# Altium schematic symbol library IB_floripasat2.SchLib: 29 symbols (part 2 of 2)
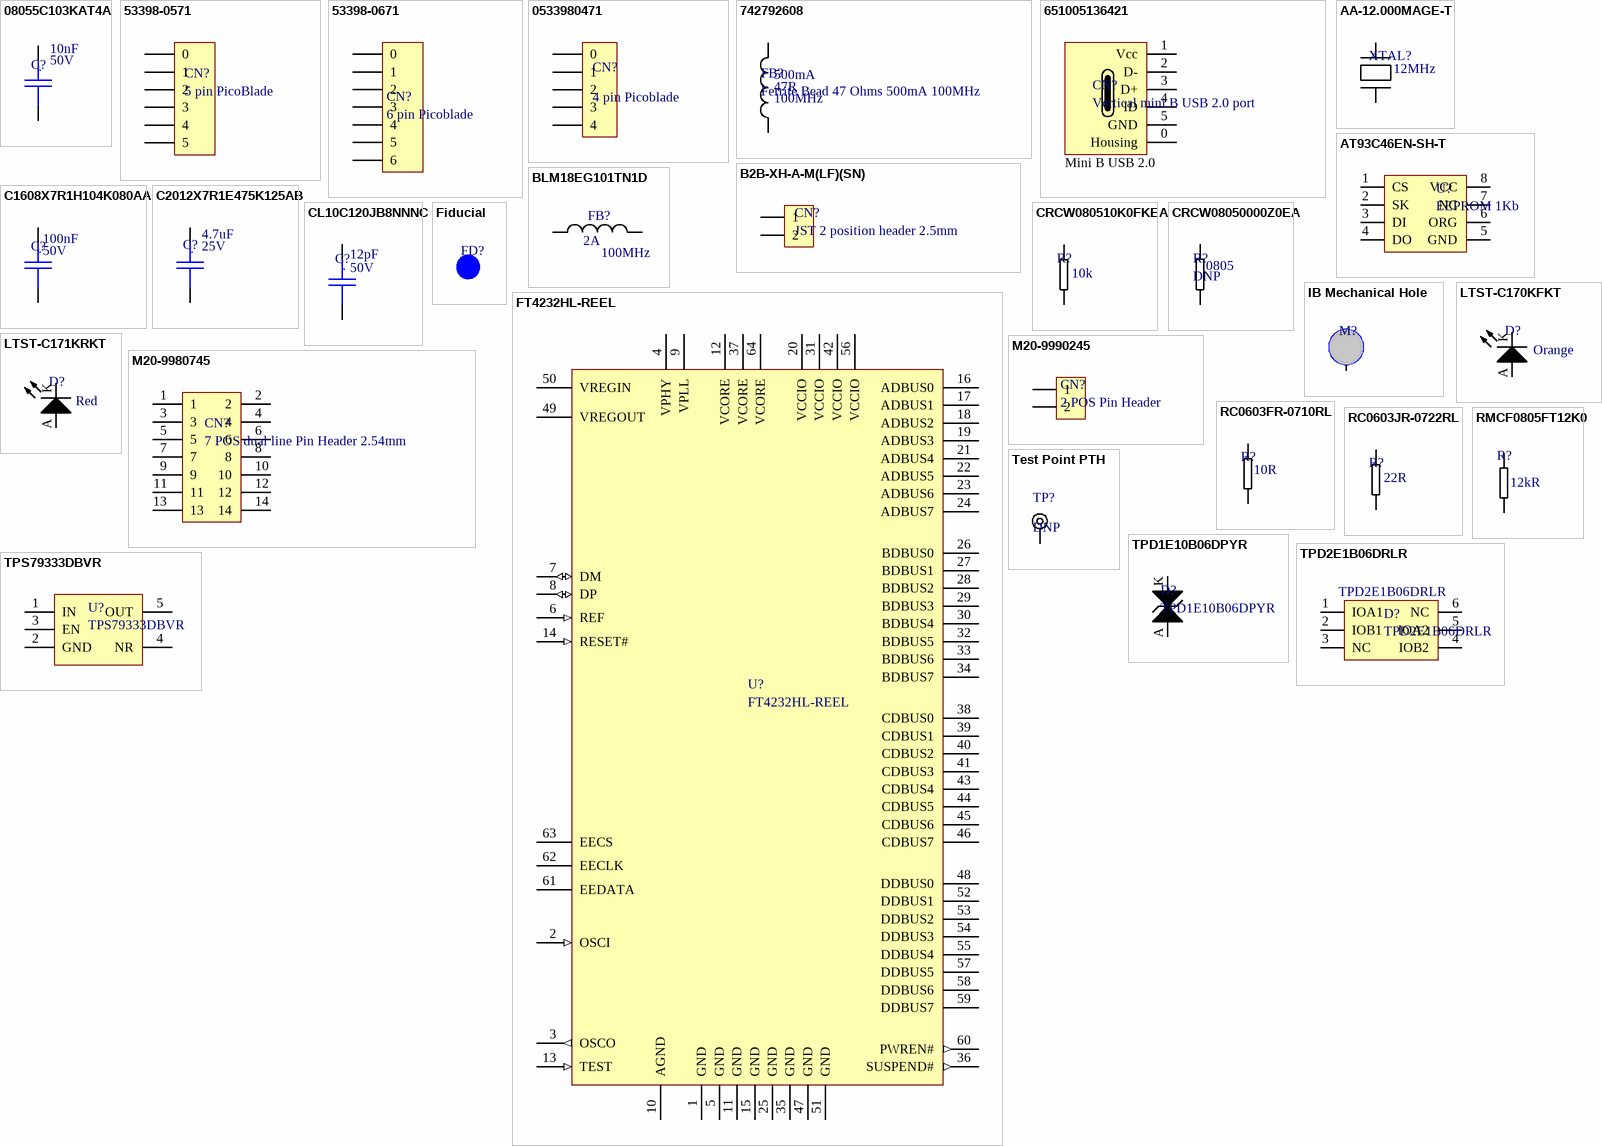
[diagram p1: symbols 08055C103KAT4A to TPS79333DBVR]

## RMCF0805FT12K0
designator R?, comment Resistance: 12kR  (hidden comment: RES 12K ohms (0805))
Resistor, SMT, 0805, 12K Ohm, +/-1%, +/-100ppm, Thk Film, T/R Marked; Manufacturer: Stackpole Electronics; Manufacturer Part Number: RMCF0805FT12K0; Power Rating: 125mW; Temperature Coefficient: 100ppm/°C; Tolerance: 1%; Supplier 1: Digi-Key; Supplier Part Number 1: RMCF0805FT12K0CT-ND; Stock 1: 30304; Pricing 1: 1=0.1, 10=0.026, 100=0.0104, 1000=0.00466, 2500=0.00405 (USD); Mount: Surface Mount; Case/Package: 0805; Case Code (Metric): 2012; Case Code (Imperial): 0805; Contact Plating: Tin,Matte; Min Operating Temperature: -55°C; Max Operating Temperature: 155°C; Packaging: Tape and Reel; Composition: Thick Film; Number of Terminations: 2; Max Power Dissipation: 125mW; Features: Automotive AEC-Q200; Length: 0.079inch; Height: 0.026inch; Width: 0.049inch; Radiation Hardening: No; Lead Free: Lead Free; ComponentLink1URL: https://www.seielect.com/catalog/SEI-RMCF_RMCP.pdf?src-supplier=Avnet; ComponentLink1Description: https://www.seielect.com/catalog/SEI-RMCF_RMCP.pdf?src-supplier=Avnet; ComponentLink2URL: https://www.seielect.com/Catalog/SEI-RMCF_RMCP.pdf?src-supplier=Digi-Key; ComponentLink2Description: https://www.seielect.com/Catalog/SEI-RMCF_RMCP.pdf?src-supplier=Digi-Key; ComponentLink3URL: https://www.seielect.com/catalog/SEI-Packaging.pdf?src-supplier=Digi-Key; ComponentLink3Description: https://www.seielect.com/catalog/SEI-Packaging.pdf?src-supplier=Digi-Key; ComponentLink4URL: http://seielect.com/Catalog/SEI-RMCF_RMCP.pdf?src-supplier=Future+Electronics; ComponentLink4Description: http://seielect.com/Catalog/SEI-RMCF_RMCP.pdf?src-supplier=Future+Electronics; ComponentLink5URL: http://components.arrow.com/part/dataview/40964023S7542466N1174?src-supplier=Arrow; ComponentLink5Description: http://components.arrow.com/part/dataview/40964023S7542466N1174?src-supplier=Arrow
footprint R0805_MD (Chip Resistor, Body 2.0x1.3mm, IPC Medium Density)
pins: 1, 2

## Test Point PTH
designator TP?, comment DNP  (no BOM)
TEST POINT PAD
footprint TEST POINT PTH
pins: 1

## TPD1E10B06DPYR
designator D?
TEXAS INSTRUMENTS - TPD1E10B06DPYR - ESD Protection Device, 14 V, SON, 2 Pins, TPD1E Series; Capacitance: 12pF; Direction: Bidirectional; Breakdown Voltage: 6V; Number of Channels: 1; Reverse Standoff Voltage: 5.5V; Clamping Voltage: 14V; Peak Pulse Power: 90W; Power Line Protection: No; Leakage Current: 100nA; ESD Protection: Yes; Test Current: 1mA; Element Configuration: Single; Peak Pulse Current: 5A; Interface: GPIO; Supplier 1: Digi-Key; Supplier Part Number 1: 296-30406-1-ND; Manufacturer: Texas Instruments; Stock 1: 909024; Pricing 1: 1=0.45, 10=0.336, 25=0.294, 100=0.1596, 250=0.15876, 500=0.1302, 1000=0.0966, 2500=0.08484, 5000=0.0777 (USD); Case/Package: 0402; Number of Pins: 2; Contact Plating: Gold; Min Operating Temperature: -40°C; Max Operating Temperature: 125°C; Package Quantity: 1; Packaging: Tape and Reel; Number of Bidirectional Channels: 1; Min Breakdown Voltage: 6V; Working Voltage: 5.5V; Max Reverse Leakage Current: 100nA; Composition: Zener; Length: 1.1mm; Height: 0.35mm; Width: 0.7mm; Radiation Hardening: No; REACH SVHC: No SVHC; Lead Free: Lead Free; ComponentLink1URL: http://www.ti.com/lit/ds/sllseb1b/sllseb1b.pdf?src-supplier=Avnet+Europe; ComponentLink1Description: http://www.ti.com/lit/ds/sllseb1b/sllseb1b.pdf?src-supplier=Avnet+Europe; ComponentLink2URL: http://www.farnell.com/datasheets/1877100.pdf?src-supplier=Element14; ComponentLink2Description: http://www.farnell.com/datasheets/1877100.pdf?src-supplier=Element14; ComponentLink3URL: http://www.ti.com/general/docs/lit/getliterature.tsp?genericPartNumber=TPD1E10B06&&fileType=pdf&src-supplier=Avnet; ComponentLink3Description: http://www.ti.com/general/docs/lit/getliterature.tsp?genericPartNumber=TPD1E10B06&&fileType=pdf&src-supplier=Avnet; ComponentLink4URL: http://www.ti.com/lit/ds/symlink/tpd1e10b06.pdf?src-supplier=Digi-Key; ComponentLink4Description: http://www.ti.com/lit/ds/symlink/tpd1e10b06.pdf?src-supplier=Digi-Key; Supplier 2: Mouser; Supplier Part Number 2: 595-TPD1E10B06DPYR; Stock 2: 146145; Pricing 2: 1=0.45, 10=0.294, 100=0.159, 500=0.131, 1000=0.097, 2500=0.078 (USD); Manufacturer Part Number: TPD1E10B06DPYR
footprint 2-X1SON (D0402)
pins: A, K

## TPD2E1B06DRLR
designator D?
ESD Suppressor Diode Arrays 5.5V Automotive 6-Pin SOT-563 T/R; Manufacturer: Texas Instruments; Capacitance: 1.3pF; Direction: Bidirectional; Number of Bidirectional Channels: 2; Min Breakdown Voltage: 7V; Clamping Voltage: 15V; Peak Pulse Power: 35W; Power Line Protection: No; Leakage Current: 10nA; Element Configuration: Dual; Peak Pulse Current: 2.5A; Interface: LVDS,USB; Supplier 1: Digi-Key; Supplier Part Number 1: 296-37298-1-ND; Stock 1: 19950; Pricing 1: 1=0.52, 10=0.443, 25=0.4132, 100=0.3068, 250=0.29148, 500=0.23954, 1000=0.1947 (USD); Mount: Surface Mount; Case/Package: SOT; Number of Pins: 6; Min Operating Temperature: -40°C; Max Operating Temperature: 125°C; Packaging: Tape and Reel; Reverse Standoff Voltage: 5.5V; Working Voltage: 5.5V; Number of Channels: 2; Length: 1.7mm; Depth: 1.3mm; Radiation Hardening: No; Lead Free: Lead Free; ComponentLink1URL: https://www.verical.com/server-webapp/html/getDatasheet?partID=782067&src-supplier=Verical; ComponentLink1Description: https://www.verical.com/server-webapp/html/getDatasheet?partID=782067&src-supplier=Verical; ComponentLink2URL: https://media.digikey.com/pdf/Data%20Sheets/Texas%20Instruments%20PDFs/TPD2E1B06.pdf?src-supplier=Digi-Key; ComponentLink2Description: https://media.digikey.com/pdf/Data%20Sheets/Texas%20Instruments%20PDFs/TPD2E1B06.pdf?src-supplier=Digi-Key; ComponentLink3URL: http://www.ti.com/lit/ds/symlink/tpd2e1b06.pdf?src-supplier=Avnet; ComponentLink3Description: http://www.ti.com/lit/ds/symlink/tpd2e1b06.pdf?src-supplier=Avnet; Supplier 2: Mouser; Supplier Part Number 2: 595-TPD2E1B06DRLR; Stock 2: 4295; Pricing 2: 1=0.52, 10=0.413, 100=0.292, 500=0.24, 1000=0.195, 2000=0.183 (USD); Manufacturer Part Number: TPD2E1B06DRLR
footprint SOT-666
pins: 1 IOA1, 2 IOB1, 3 NC, 4 IOB2, 5 IOA2, 6 NC

## TPS79333DBVR
designator U?
TEXAS INSTRUMENTS - TPS79333DBVR - IC, V REG, LINEAR, 0.2A, SOT-23-5; Number of Outputs: 1; Output Voltage: 3.3V; Max Power Dissipation: 560mW; Max Output Current: 200mA; Max Input Voltage: 5.5V; Min Input Voltage: 2.7V; Polarity: Positive; Quiescent Current: 200uA; Accuracy: 2%; Output Type: Fixed; Dropout Voltage: 102mV; Min Current Limit: 285mA; Input Bias Current: 170uA; Supplier 1: Digi-Key; Supplier Part Number 1: 296-12961-1-ND; Manufacturer: Texas Instruments; Stock 1: 21565; Pricing 1: 1=0.73, 10=0.64, 25=0.6016, 100=0.4559, 250=0.388, 500=0.3686, 1000=0.2813 (USD); Case/Package: SOT-23; Number of Pins: 5; Min Operating Temperature: -40°C; Max Operating Temperature: 125°C; Output Current: 200mA; Packaging: Tape and Reel; Package Quantity: 1; Number of Regulators: 1; Min Output Voltage: 3.3V; Power Dissipation: 560mW; Max Output Voltage: 3.3V; Output Voltage Accuracy: 2%; Nominal Output Voltage: 3.3V; Power Rating: 560mW; Max Supply Voltage: 5.5V; Min Supply Voltage: 2.7V; Termination: SMD/SMT; Current Rating: 200mA; Length: 2.9mm; Height: 1.15mm; Width: 1.6mm; Radiation Hardening: No; Lead Free: Lead Free; REACH SVHC: No SVHC; ComponentLink1URL: http://www.ti.com/general/docs/lit/getliterature.tsp?genericPartNumber=TPS793&amp;&amp;fileType=pdf&src-supplier=Farnell; ComponentLink1Description: http://www.ti.com/general/docs/lit/getliterature.tsp?genericPartNumber=TPS793&amp;&amp;fileType=pdf&src-supplier=Farnell; ComponentLink2URL: http://www.jameco.com/Jameco/Products/ProdDS/1123416.pdf?src-supplier=Jameco; ComponentLink2Description: http://www.jameco.com/Jameco/Products/ProdDS/1123416.pdf?src-supplier=Jameco; Supplier 2: Mouser; Supplier Part Number 2: 595-TPS79333DBVR; Stock 2: 31707; Pricing 2: 1=0.72, 10=0.6, 100=0.379, 1000=0.289, 2000=0.282, 3000=0.252, 9000=0.242, 48000=0.233 (USD); Manufacturer Part Number: TPS79333DBVR
footprint SOT23-5
pins: 1 IN, 2 GND, 3 EN, 4 NR, 5 OUT